# Altium schematic symbol library CC0603KRX7R9BB203.SchLib: 1 symbol
Pins are listed as number, name and electrical type; pins without a type are passive.

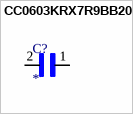
[diagram p0: symbol CC0603KRX7R9BB203]

## CC0603KRX7R9BB203
designator C?
X7R 20nF 50V 0603 Multilayer Ceramic Capacitors MLCC - SMD/SMT ROHS; Manufacturer: YAGEO; Mfr.Part #: CC0603KRX7R9BB203; Package: 0603; Packaging: Tape & Reel (TR); Datasheet: https://datasheet.lcsc.com/lcsc/1811082015_YAGEO-CC0603KRX7R9BB203_C282065.pdf; LCSC Part#: C282065; Value: 20nF
footprint CC0603KRX7R9BB203
pins: 1, 2